# Altium schematic symbol library SCH_Battery.SchLib: 1 symbol
Pins are listed as number, name and electrical type; pins without a type are passive.

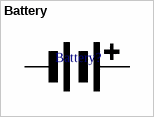
[diagram p0: symbol Battery]

## Battery
designator Battery?  (value not drawn)
footprint CR2032-1
footprint CR1220
pins: 1 -, 2 +